# EAGLE library part AD9057 (library 0myLib)
8-Bit 40 MSPS/60 MSPS/80 MSPS A/D Converter
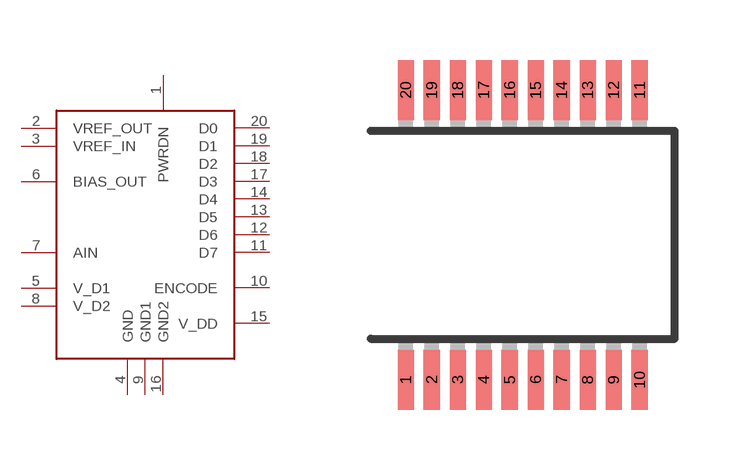
[diagram p49: symbol with the pads of SSOP20; footprint SSOP20]

Designator prefix -

## AD9057  [SSOP20]
1  PWRDN
2  VREF_OUT
3  VREF_IN
4  GND
5  V_D1
6  BIAS_OUT
7  AIN
8  V_D2
9  GND1
10  ENCODE
11  D7
12  D6
13  D5
14  D4
15  V_DD
16  GND2
17  D3
18  D2
19  D1
20  D0

## Footprint SSOP20 (pad centres in mm)
Shrink Small Outline Package package type SS
smd 0.4 x 1.5: 1 -2.925,-3.625; 2 -2.275,-3.625; 3 -1.625,-3.625; 4 -0.975,-3.625; 5 -0.325,-3.625; 6 0.325,-3.625; 7 0.975,-3.625; 8 1.625,-3.625; 9 2.275,-3.625; 10 2.925,-3.625; 11 2.925,3.625; 12 2.275,3.625; 13 1.625,3.625; 14 0.975,3.625; 15 0.325,3.625; 16 -0.325,3.625; 17 -0.975,3.625; 18 -1.625,3.625; 19 -2.275,3.625; 20 -2.925,3.625